# Altium schematic symbol library SCH - POWER - SWITCHMODE - TI TPS51100_DGQ_10.SchLib: 1 symbol
Pins are listed as number, name and electrical type; pins without a type are passive.

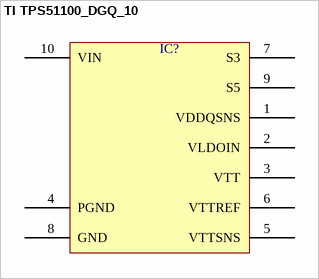
[diagram p0: symbol TI TPS51100_DGQ_10]

## TI TPS51100_DGQ_10
designator IC?  (value not drawn)
pins: 1 VDDQSNS, 2 VLDOIN, 3 VTT, 4 PGND, 5 VTTSNS, 6 VTTREF, 7 S3, 8 GND, 9 S5, 10 VIN